# Altium footprint library wireless.PcbLib: 3 footprints
Each footprint in its own frame and in the unit in brackets; x right, y up, seen from the top. Pads: shape width x height; smd on the part's side, far side on the other; paste and mask are expansions set on the pad; w line width, h text height; cw(c..) or ccw(c..) is an arc to the next point about the centre after c.
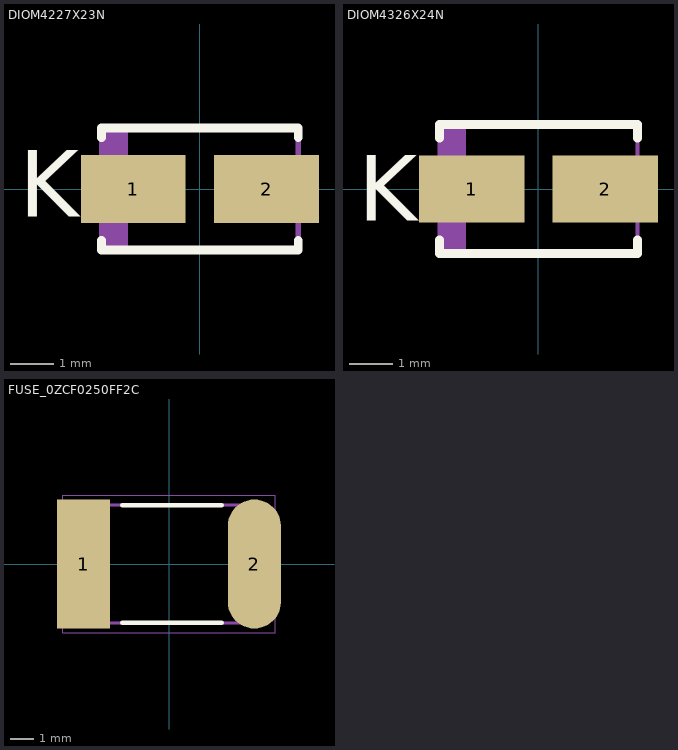
[diagram p0: the footprints below, top view; thin cyan lines are the x and y axes]

## DIOM4227X23N [mm] "Molded Diode, 2-Leads, Body 4.25x2.67mm, IPC Medium Density"
height 2.29
pads (2):
  rect 2.4x1.55 smd: 1(-1.525,0) 2(1.525,0)
Top Overlay:
  lines w0.203: -2.25,-1.177 -2.25,-1.4 2.25,-1.4 2.25,-1.177 ; -2.25,1.177 -2.25,1.4 2.25,1.4 2.25,1.177
  text "K" at -4.14,-0.635 h1.52
Mechanical 1:
  text "'.Designator'" at 0,0 h1.52
Mechanical 15:
  rectangle: -2.25,-1.395 -1.645,1.395
  lines w0.127: -2.25,-1.395 -2.25,1.395 2.25,1.395 2.25,-1.395 -2.25,-1.395
  text "K" at -3.81,-0.305 h1.52
3D body "DIOM4227X23N.step": height 2.29, standoff 0, extent -2.47,-1.395 2.47,1.395

## DIOM4326X24N [mm] "Molded Diode, 2-Leads, Body 4.30x2.60mm, IPC Medium Density"
height 2.4
pads (2):
  rect 2.45x1.55 smd: 1(-1.55,0) 2(1.55,0)
Top Overlay:
  lines w0.203: -2.3,-1.177 -2.3,-1.5 2.3,-1.5 2.3,-1.177 ; -2.3,1.177 -2.3,1.5 2.3,1.5 2.3,1.177
  text "K" at -4.191,-0.737 h1.52
Mechanical 1:
  text "'.Designator'" at 0,0 h1.52
Mechanical 15:
  rectangle: -2.3,-1.46 -1.681,1.46
  lines w0.1: -2.3,-1.46 2.3,-1.46 2.3,1.46 -2.3,1.46 -2.3,-1.46
  text "K" at -3.988,-0.33 h1.52
3D body "DIOM4326X24N.step": height 2.4, standoff 0, extent -2.52,-1.46 2.52,1.46

## FUSE_0ZCF0250FF2C [mm] "PTC RESET FUSE 16V 2.5A 2920"
height 0.9
pads (2):
  rect 2.3x5.6 smd: 1(-3.7,0)
  oval 2.3x5.6 smd: 2(3.7,0)
Top Overlay:
  lines w0.203: -2.032,-2.54 2.286,-2.54 ; -2.032,2.54 2.286,2.54
Mechanical 1:
  text "'.Designator'" at 0,0 h1.52
Mechanical 15:
  lines w0.127: -3.678,-2.56 3.678,-2.56 3.678,2.56 -3.678,2.56 -3.678,-2.56
Mechanical 20:
  lines w0.05: -4.595,-2.975 4.595,-2.975 4.595,2.975 -4.595,2.975 -4.595,-2.975
3D body "0ZCF0250FF2C.stp": height 0.9, standoff 0, extent -3.678,-2.56 3.678,2.56